# EAGLE library part MAX232*? (library Volks73-Maxim)
+5V-Powered, Multichannel RS-232 Drivers/Receivers Documentation Datasheet <http://datasheets.maximintegrated.com/en/ds/MAX220-MAX249.pdf> General Description The MAX220–MAX249 family of line drivers/receivers is intended for all EIA/TIA-232E and V.28/V.24 communications interfaces, particularly applications where ±12V is not available. The MAX225, MAX233, MAX235, and MAX245/MAX246/MAX247 use no external components and are recommended for applications where printed circuit board space is critical. The MAX220-MAX249 are offered in 26 different packages with temperatures from 0 to +70°C up to -55°C to +125°C. See ordering information table at the end of the data sheet for all package and temperature options. Applications Interface Translation Multidrop RS-232 Networks Portable Diagnostics Equipment Benefits and Features Saves Board Space Integrated Charge Pump Circuitry Eliminates the Need for a Bipolar ±12V Supply Enables the Single Supply Operation from +5V Supply Integrated Capacitors (MAX223, MAX233, MAX235, MAX245-MAX247) Saves Power for Reduced Power Requirements 5μW Shutdown Mode
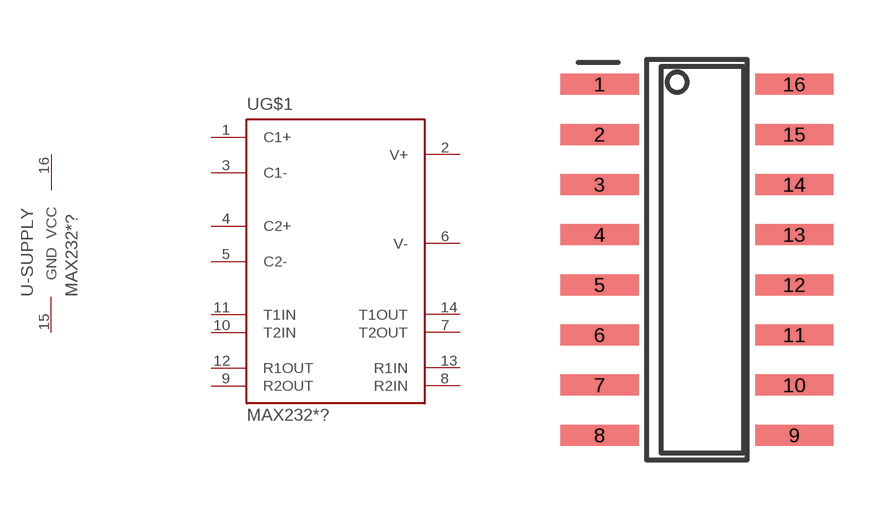
[diagram p0: symbol with the pads of SO-16; footprint SO-16]

Designator prefix U; gates G$1=MAX232 -SUPPLY=SUPPLY

## MAX232CSE+ (CATEGORY: Integrated Circuits (ICs); DATA_RATE: 120Kbps; DESCRIPTION: IC RS-232 DVR/RCVR 16-SOIC; DOCUMENTATION_LINK: <a href="http://datasheets.maximintegrated.com/en/ds/MAX220-MAX249.pdf">Datasheet</a>; DOCUMENTATION_URL: http://datasheets.maximintegrated.com/en/ds/MAX220-MAX249.pdf; DUPLEX: Full; FAMILY: Interface - Drivers, Receivers, Transceivers; MANUFACTURER: Maxim Integrated; MOUNTING_TYPE: Surface Mount; NUMBER_OF_DRIVERS-RECEIVERS: 2/2; OPERATING_TEMPERATURE: 0°C ~ 70°C; PACKAGE: 16-SOIC (0.154", 3.90mm Width); PART_NUMBER: MAX232CSE+; PROTOCOL: RS232; RECEIVER_HYSTERESIS: 500mV; SERIES: -; SUPPLIER_DEVICE_PACKAGE: 16-SOIC; SUPPLIER_ITEM_LINK: <a href="http://www.digikey.com/product-detail/en/MAX232CSE%2B/MAX232CSE%2B-ND/1513858">Details</a>; SUPPLIER_ITEM_NUMBER: MAX232CSE+-ND; SUPPLIER_ITEM_URL: http://www.digikey.com/product-detail/en/MAX232CSE%2B/MAX232CSE%2B-ND/1513858; SUPPLIER_LINK: <a href="http://www.digikey.com">Home Page</a>; SUPPLIER_NAME: Digi-Key; SUPPLIER_URL: http://www.digikey.com; TYPE: Transceiver; VOLTAGE-SUPPLY: 4.5 V ~ 5.5 V), MAX232ACSE+ (CATEGORY: Integrated Circuits (ICs); DATA_RATE: 200Kbps; DESCRIPTION: IC 2DVR/2RCVR RS232 5V 16-SOIC; DOCUMENTATION_LINK: <a href="http://datasheets.maximintegrated.com/en/ds/MAX220-MAX249.pdf">Datasheet</a>; DOCUMENTATION_URL: http://datasheets.maximintegrated.com/en/ds/MAX220-MAX249.pdf; DUPLEX: Full; FAMILY: Interface - Drivers, Receivers, Transceivers; MANUFACTURER: Maxim Integrated; MOUNTING_TYPE: Surface Mount; NUMBER_OF_DRIVERS-RECEIVERS: 2/2; OPERATING_TEMPERATURE: 0°C ~ 70°C; PACKAGE: 16-SOIC (0.154", 3.90mm Width); PART_NUMBER: MAX232ACSE+; PROTOCOL: RS232; RECEIVER_HYSTERESIS: 500mV; SERIES: -; SUPPLIER_DEVICE_PACKAGE: 16-SOIC; SUPPLIER_ITEM_LINK: <a href="http://www.digikey.com/product-detail/en/MAX232ACSE%2B/MAX232ACSE%2B-ND/947830">Details</a>; SUPPLIER_ITEM_NUMBER: MAX232ACSE+-ND; SUPPLIER_ITEM_URL: http://www.digikey.com/product-detail/en/MAX232ACSE%2B/MAX232ACSE%2B-ND/947830; SUPPLIER_LINK: <a href="http://www.digikey.com">Home Page</a>; SUPPLIER_NAME: Digi-Key; SUPPLIER_URL: http://www.digikey.com; TYPE: Transceiver; VOLTAGE-SUPPLY: 4.5 V ~ 5.5 V)  [SO-16]
1  G$1:C1+
2  G$1:V+
3  G$1:C1-
4  G$1:C2+
5  G$1:C2-
6  G$1:V-
7  G$1:T2OUT  out
8  G$1:R2IN  in
9  G$1:R2OUT  out
10  G$1:T2IN  in
11  G$1:T1IN  in
12  G$1:R1OUT  out
13  G$1:R1IN  in
14  G$1:T1OUT  out
15  -SUPPLY:GND  pwr
16  -SUPPLY:VCC  pwr

## Footprint SO-16 (pad centres in mm)
Small Outline 16-Pin Small Outline Integrated Circuit (SOIC) 16-Pin Surface Mount Device (SMD)
smd 1.98 x 0.53: 1 -2.465,4.445; 2 -2.465,3.175; 3 -2.465,1.905; 4 -2.465,0.635; 5 -2.465,-0.635; 6 -2.465,-1.905; 7 -2.465,-3.175; 8 -2.465,-4.445; 9 2.465,-4.445; 10 2.465,-3.175; 11 2.465,-1.905; 12 2.465,-0.635; 13 2.465,0.635; 14 2.465,1.905; 15 2.465,3.175; 16 2.465,4.445